# Altium footprint library JDB-001.PcbLib: 44 footprints (part 1 of 3)
Each footprint in its own frame and in the unit in brackets; x right, y up, seen from the top. Pads: shape width x height; smd on the part's side, far side on the other; paste and mask are expansions set on the pad; w line width, h text height; cw(c..) or ccw(c..) is an arc to the next point about the centre after c.
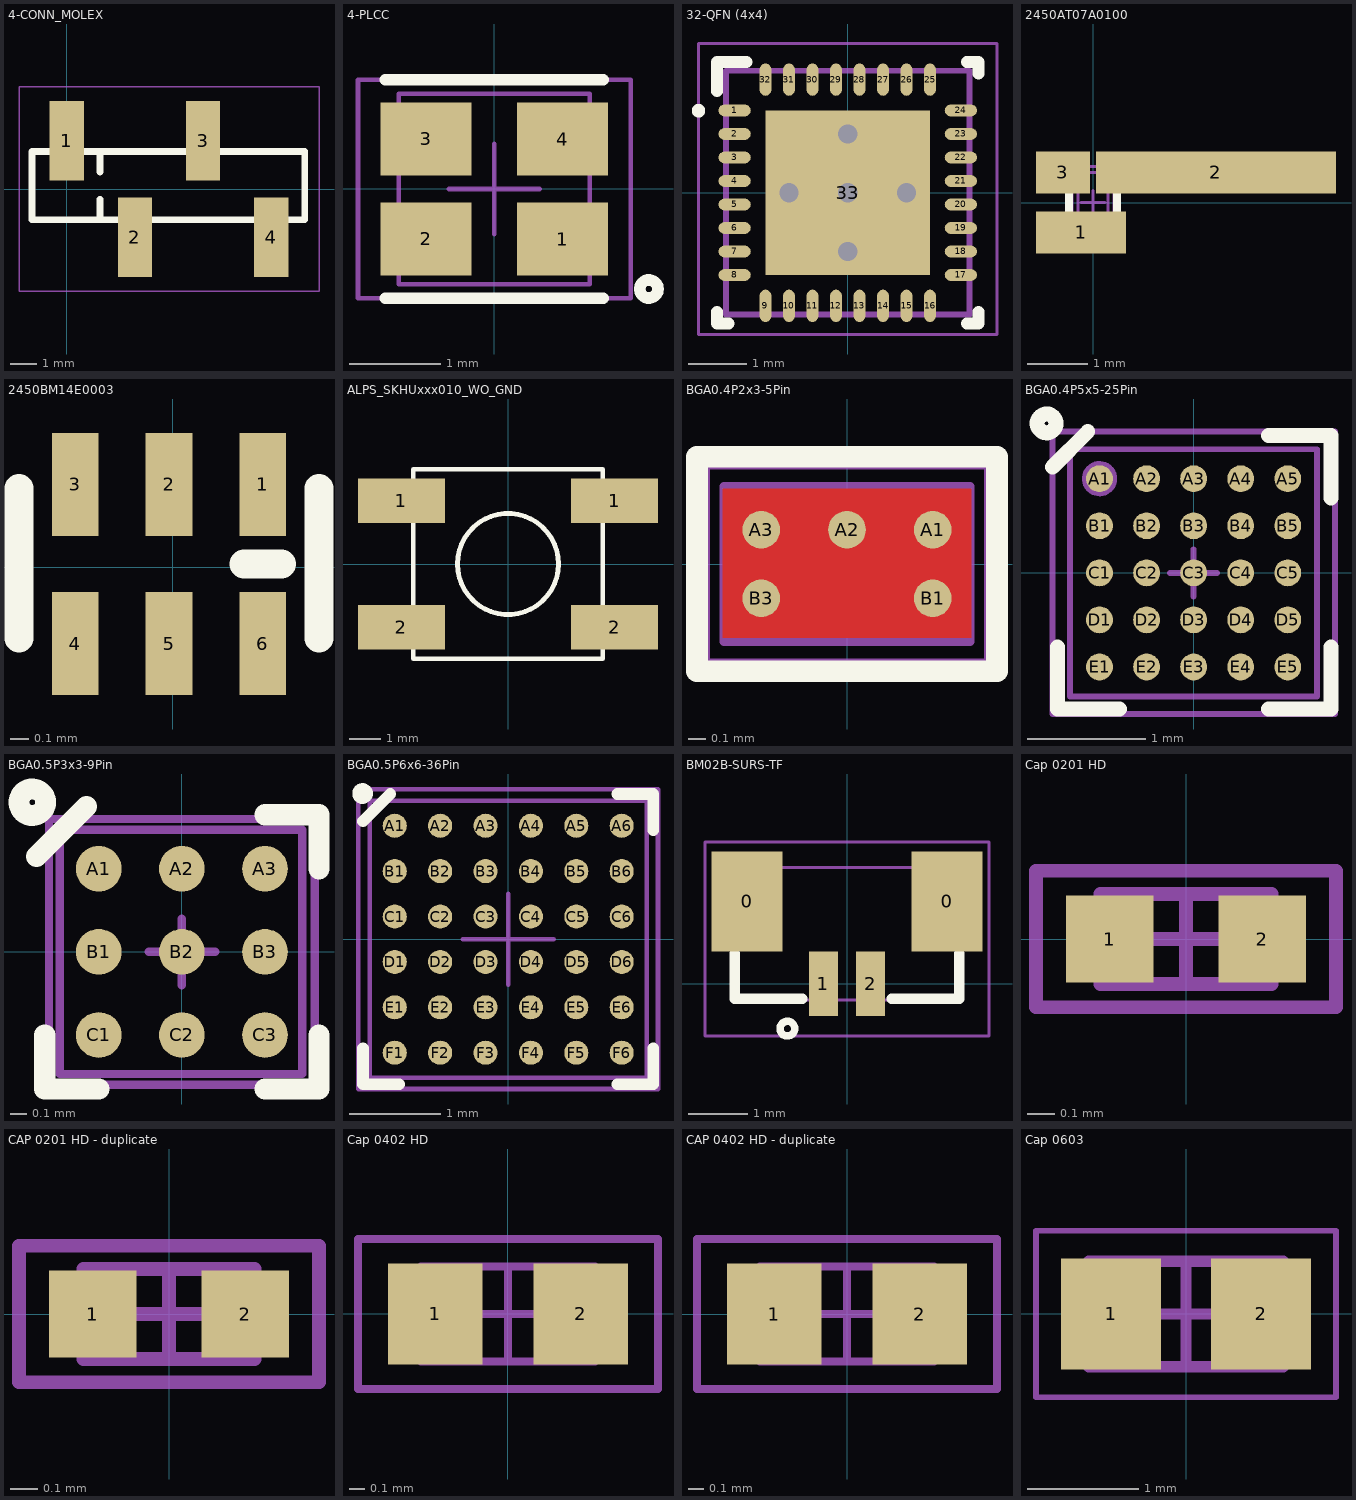
[diagram p0: the footprints below, top view; thin cyan lines are the x and y axes]

## 4-CONN_MOLEX [mm] "4 Positions Header, Unshrouded, Breakaway Connector 0.100\" (2.54mm) Surface Mount Tin"
pads (4):
  rect 1.27x2.96 smd: 1(0,1.8) 2(2.54,-1.8) 3(5.08,1.8) 4(7.62,-1.8)
Top Overlay:
  lines w0.254: 1.245,-1.143 1.245,-0.381 ; 1.245,0.635 1.245,1.397 ; -1.295,-1.143 8.865,-1.143 8.865,1.397 -1.295,1.397 -1.295,-1.143
Mechanical 11:
  text ".Designator" at 2.743,-0.356 h1.27
Mechanical 15:
  lines w0.05: -1.778,-3.81 -1.778,3.81 -1.473,3.81 -1.295,3.81 9.398,3.81 9.398,3.073 9.398,-3.429 9.398,-3.81 8.382,-3.81 -0.483,-3.81 -1.778,-3.81
3D body "User Library-header1x4 1241150-4.STEP": height 10.16, standoff 0, extent -1.321,-2.565 8.839,2.515

## 4-PLCC [mm] "4 Pin Plastic Leaded Chip Carrier, 2mm x 2mm"
height 1
pads (4):
  rect 1x0.8 smd: 1(0.75,-0.55) 2(-0.75,-0.55) 3(-0.75,0.55) 4(0.75,0.55)
Top Overlay:
  circle w0.127: c1.7,-1.1 r0.1
  lines w0.127: -1.2,-1.2 1.2,-1.2 ; -1.2,1.2 1.2,1.2
Mechanical 11:
  text ".Designator" at -1.491,0.411 h0.8
Mechanical 13:
  lines w0.05: -1.05,-1.05 1.05,-1.05 1.05,1.05 -1.05,1.05 -1.05,-1.05
Mechanical 15:
  lines w0.05: -0.5,0 0.5,0 ; 0,-0.5 0,0.5 ; -1.5,-1.2 1.5,-1.2 1.5,1.2 -1.5,1.2 -1.5,-1.2
3D body: height 1, standoff 0, extent -1.05,-1.05 1.05,1.05

## 32-QFN (4x4) [mm] "32-WFQFN Exposed Pad, SMT"
pads (33):
  oval 0.55x0.2 smd paste-0.262 mask+0.051: 1(-1.925,1.4) 2(-1.925,1) 3(-1.925,0.6) 4(-1.925,0.2) 5(-1.925,-0.2) 6(-1.925,-0.6) 7(-1.925,-1) 8(-1.925,-1.4) 17(1.925,-1.4) 18(1.925,-1) 19(1.925,-0.6) 20(1.925,-0.2) 21(1.925,0.2) 22(1.925,0.6) 23(1.925,1) 24(1.925,1.4)
  oval 0.2x0.55 smd paste-0.262 mask+0.051: 9(-1.4,-1.925) 10(-1,-1.925) 11(-0.6,-1.925) 12(-0.2,-1.925) 13(0.2,-1.925) 14(0.6,-1.925) 15(1,-1.925) 16(1.4,-1.925) 25(1.4,1.925) 26(1,1.925) 27(0.6,1.925) 28(0.2,1.925) 29(-0.2,1.925) 30(-0.6,1.925) 31(-1,1.925) 32(-1.4,1.925)
  rect 2.8x2.8 smd paste-1.387 mask+0.051: 33(0,0)
via 0,-1 diameter 0.66 hole 0.33
via 0,1 diameter 0.66 hole 0.33
via 1,0 diameter 0.66 hole 0.33
via -1,0 diameter 0.66 hole 0.33
via 0,0 diameter 0.66 hole 0.33
Top Overlay:
  circle w0.178: c-2.54,1.397 r0.025
  lines w0.2: -2.225,-2.025 -2.225,-2.225 -2.025,-2.225 ; -2.225,1.725 -2.225,2.225 -1.725,2.225 ; 2.025,-2.225 2.225,-2.225 2.225,-2.025 ; 2.025,2.225 2.225,2.225 2.225,2.025
Top Paste:
  region: 0.1,-0.1 0.1,-1.37 1.37,-1.37 1.37,-0.1
  region: -0.1,-1.37 -0.1,-0.1 -1.37,-0.1 -1.37,-1.37
  region: -0.1,0.1 -0.1,1.37 -1.37,1.37 -1.37,0.1
  region: 0.1,1.37 0.1,0.1 1.37,0.1 1.37,1.37
Mechanical 11:
  text ".Designator" at -1.854,-0.508 h1.27
Mechanical 13:
  lines w0.1: -2.075,-2.075 2.075,-2.075 2.075,2.075 -2.075,2.075 -2.075,-2.075
Mechanical 15:
  lines w0.051: -2.54,-2.413 2.54,-2.413 2.54,2.54 -2.54,2.54 -2.54,1.397 -2.54,-2.413
3D body "User Library-QFN 32.STEP": height 0.59, standoff -0.01, extent -2.001,-2.001 2.001,2.001

## 2450AT07A0100 [mm] "Chip Antenna, 4 pin w/keepout area"
height 0.37
pads (3):
  rect 1.5x0.7 smd paste-0.4 mask-0.4: 1(-0.2,-0.5)
  rect 4x0.7 smd paste-2 mask-2: 2(2.05,0.5)
  rect 0.9x0.7 smd paste-0.45 mask-0.45: 3(-0.5,0.5)
Top Overlay:
  circle w0.127: c0.375,-0.675 r0.07
  lines w0.127: -0.4,-0.4 -0.4,0.4 ; 0.4,-0.4 0.4,0.4
Top Paste:
  rectangle: 0.049,-0.45 0.299,-0.15
  rectangle: -0.301,-0.45 -0.051,-0.15
  rectangle: -0.301,0.15 -0.051,0.45
  rectangle: 0.049,0.15 0.299,0.45
Top Solder:
  rectangle: -0.301,0.15 -0.051,0.45
  rectangle: 0.049,0.15 0.299,0.45
  rectangle: 0.049,-0.45 0.299,-0.15
  rectangle: -0.301,-0.45 -0.051,-0.15
Mechanical 11:
  text ".Designator" at 0.255,-0.824 h0.5
Mechanical 13:
  lines w0.05: -0.25,-0.5 0.25,-0.5 0.25,0.5 -0.25,0.5 -0.25,-0.5
Mechanical 15:
  lines w0.05: -0.2,0 0.2,0 ; 0,-0.2 0,0.2 ; -0.35,-0.6 -0.35,0.6 0.35,0.6 0.35,-0.6 -0.35,-0.6
Multi-Layer:
  pour cut-out: -0.95,0.95 -0.95,-2.05 4.05,-2.05 4.05,0.95
3D body: height 0.37, standoff 0, extent -0.25,-0.5 0.25,0.5

## 2450BM14E0003 [mm] "nRF51822 Balun"
pads (6):
  rect 0.25x0.55 smd: 1(0.48,0.443) 2(-0.02,0.443) 3(-0.52,0.443) 4(-0.52,-0.407) 5(-0.02,-0.407) 6(0.48,-0.407)
Top Overlay:
  lines w0.152: -0.82,-0.377 -0.82,0.423 ; 0.38,0.018 0.58,0.018 ; 0.78,-0.377 0.78,0.423
3D body: height 0.62, standoff 0, extent 0.38,-0.022 0.58,0.058
3D body: height 0.62, standoff 0, extent 0.38,-0.392 0.58,-0.242
3D body: height 0.62, standoff 0, extent -0.12,-0.392 0.08,-0.242
3D body: height 0.62, standoff 0, extent -0.62,-0.392 -0.42,-0.242
3D body: height 0.62, standoff 0, extent -0.62,0.278 -0.42,0.428
3D body: height 0.62, standoff 0, extent -0.12,0.278 0.08,0.428
3D body: height 0.62, standoff 0, extent 0.38,0.278 0.58,0.428
3D body: height 0.6, standoff 0, extent -0.82,-0.377 0.78,0.423

## ALPS_SKHUxxx010_WO_GND [mm]
pads (4):
  rect 2.75x1.4 smd: 1(-3.375,2) 1(3.375,2) 2(-3.375,-2) 2(3.375,-2)
Top Overlay:
  circle w0.152: c0,0 r1.601
  lines w0.152: -3,-3 -3,3 3,3 3,-3 -3,-3
3D body "Switch tact 6x6mm.stp": height 3.1, standoff 0, extent -4,-3 4,3.3

## BGA0.4P2x3-5Pin [mm] "UFBGA, 5 pin 2 row x 3 column, .4mm x .5mm pitch,  1.385mm x .855mm"
height 0.63
pads (5):
  round 0.22 smd mask+0.05: A1(0.5,0.2) A2(0,0.2) A3(-0.5,0.2) B1(0.5,-0.2) B3(-0.5,-0.2)
Top Layer:
  pour cut-out: -0.725,-0.43 0.725,-0.43 0.725,0.44 -0.725,0.44
Top Overlay:
  lines w0.127: -0.875,-0.625 0.875,-0.625 0.875,0.625 -0.875,0.625 -0.875,-0.625
Mechanical 11:
  text ".Designator" at -0.684,-0.227 h0.5
Mechanical 13:
  lines w0.05: -0.718,-0.453 0.718,-0.453 0.718,0.453 -0.718,0.453 -0.718,-0.453
Mechanical 15:
  lines w0.05: -0.2,0 0.2,0 ; 0,-0.2 0,0.2 ; -0.825,-0.575 0.825,-0.575 0.825,0.575 -0.825,0.575 -0.825,-0.575
3D body: height 0.17, standoff -0.05, extent 0.391,0.091 0.61,0.31
3D body: height 0.17, standoff -0.05, extent 0.391,-0.309 0.61,-0.09
3D body: height 0.17, standoff -0.05, extent -0.109,0.091 0.11,0.31
3D body: height 0.17, standoff -0.05, extent -0.609,-0.309 -0.39,-0.09
3D body: height 0.17, standoff -0.05, extent -0.609,0.091 -0.39,0.31
3D body: height 0.51, standoff 0.11, extent -0.725,-0.45 0.725,0.45
3D body: height 0.69, standoff 0.51, extent -0.725,-0.45 0.725,0.45

## BGA0.4P5x5-25Pin [mil] "XBGA 0.4mm pitch, 5 row x 5 column, 25 Pin, 2mm x 2mm, TI S-XBGA-N25 YFF"
height 24.61
pads (25):
  rrect100% 9x9 smd mask+1.97: A1(-31.5,31.5) A2(-15.75,31.5) A3(0,31.5) A4(15.75,31.5) A5(31.5,31.5) B1(-31.5,15.75) B2(-15.75,15.75) B3(0,15.75) B4(15.75,15.75) B5(31.5,15.75) C1(-31.5,0) C2(-15.75,0) C3(0,0) C4(15.75,0) C5(31.5,0) D1(-31.5,-15.75) D2(-15.75,-15.75) D3(0,-15.75) D4(15.75,-15.75) D5(31.5,-15.75) E1(-31.5,-31.5) E2(-15.75,-31.5) E3(0,-31.5) E4(15.75,-31.5) E5(31.5,-31.5)
Top Overlay:
  circle w5: c-49.21,50 r3.15
  lines w5: -47.24,35.43 -35.43,47.24 ; -45.59,-24.76 -45.59,-45.59 -24.76,-45.59 ; 25,-45.59 46,-45.59 46,-24.76 ; 25,46 46,46 46,25
Mechanical 11:
  text ".Designator" at -29.53,-9.84 h19.68
Mechanical 13:
  circle w1.97: c-31.5,31.5 r4.92
  lines w1.97: -41.34,-41.34 -41.34,41.34 41.34,41.34 41.34,-41.34 -41.34,-41.34
Mechanical 15:
  lines w1.97: -7.87,0 7.87,0 ; 0,-7.87 0,7.87 ; -47.24,-47.24 47.24,-47.24 47.24,47.24 -47.24,47.24 -47.24,-47.24
3D body: height 24.61, standoff 0, extent -41.34,-41.34 41.34,41.34

## BGA0.5P3x3-9Pin [mm] "DSBGA 0.5mm pitch, 3 row x 3 column, 9 Pin, 1.47mm x 1.47mm, TI S-XBGA-N9 YZF"
height 0.625
pads (9):
  round 0.275 smd paste+0 mask+0.05: A1(-0.5,0.5) A2(0,0.5) A3(0.5,0.5) B1(-0.5,0) B2(0,0) B3(0.5,0) C1(-0.5,-0.5) C2(0,-0.5) C3(0.5,-0.5)
Top Overlay:
  circle w0.125: c-0.9,0.9 r0.08
  lines w0.127: -0.875,0.575 -0.575,0.875 ; -0.825,-0.5 -0.825,-0.825 -0.5,-0.825 ; 0.5,-0.825 0.825,-0.825 0.825,-0.5 ; 0.5,0.825 0.825,0.825 0.825,0.5
Mechanical 11:
  text ".Designator" at 0.781,0.23 h0.5
Mechanical 13:
  lines w0.05: -0.734,-0.735 0.725,-0.735 0.725,0.734 -0.734,0.734 -0.734,-0.735
Mechanical 15:
  lines w0.05: -0.2,0 0.2,0 ; 0,-0.2 0,0.2 ; -0.8,-0.8 -0.8,0.8 0.8,0.8 0.8,-0.8 -0.8,-0.8
3D body: height 0.63, standoff 0, extent -0.735,-0.734 0.725,0.734
3D body: height 0.63, standoff 0, extent -0.6,0.401 -0.401,0.599

## BGA0.5P6x6-36Pin [mm] "BGA,Pitch 0.5mm, 36 Pin 6x6, Body 3x3mm"
height 0.68
pads (36):
  round 0.265 smd paste-0.132 mask+0.05: A1(-1.25,1.25) A2(-0.75,1.25) A3(-0.25,1.25) A4(0.25,1.25) A5(0.75,1.25) A6(1.25,1.25) B1(-1.25,0.75) B2(-0.75,0.75) B3(-0.25,0.75) B4(0.25,0.75) B5(0.75,0.75) B6(1.25,0.75) C1(-1.25,0.25) C2(-0.75,0.25) C3(-0.25,0.25) C4(0.25,0.25) C5(0.75,0.25) C6(1.25,0.25) D1(-1.25,-0.25) D2(-0.75,-0.25) D3(-0.25,-0.25) D4(0.25,-0.25) D5(0.75,-0.25) D6(1.25,-0.25) E1(-1.25,-0.75) E2(-0.75,-0.75) E3(-0.25,-0.75) E4(0.25,-0.75) E5(0.75,-0.75) E6(1.25,-0.75) F1(-1.25,-1.25) F2(-0.75,-1.25) F3(-0.25,-1.25) F4(0.25,-1.25) F5(0.75,-1.25) F6(1.25,-1.25)
Top Overlay:
  circle w0.127: c-1.605,1.605 r0.05
  lines w0.127: -1.6,-1.2 -1.6,-1.6 -1.2,-1.6 ; -1.6,1.3 -1.3,1.6 ; 1.2,-1.6 1.6,-1.6 1.6,-1.2 ; 1.2,1.6 1.6,1.6 1.6,1.2
Top Paste:
  drawing of 324 lines, arcs and shapes, not listed
Mechanical 11:
  text ".Designator" at 0.447,-1.72 h1
Mechanical 13:
  lines w0.05: -1.525,-1.525 -1.525,1.525 1.525,1.525 1.525,-1.525 -1.525,-1.525
Mechanical 15:
  lines w0.05: -0.5,0 0.5,0 ; 0,-0.5 0,0.5 ; -1.65,-1.65 -1.65,1.65 1.65,1.65 1.65,-1.65 -1.65,-1.65
3D body: height 0.68, standoff 0, extent -1.525,-1.525 1.525,1.525

## BM02B-SURS-TF [mm]
pads (4):
  rect 1.2x1.7 smd: 0(-1.7,1.4) 0(1.7,1.4)
  rect 0.5x1.1 smd: 1(-0.4,0) 2(0.4,0)
Top Overlay:
  circle w0.127: c-1.014,-0.762 r0.125
  lines w0.178: -1.905,0.508 -1.905,-0.254 -0.762,-0.254 ; 0.762,-0.254 1.905,-0.254 1.905,0.508
Mechanical 11:
  text ".Designator" at 0,0.889 h0.5
Mechanical 13:
  lines w0.05: -1.9,-0.275 1.9,-0.275 1.9,1.975 -1.9,1.975 -1.9,-0.275
Mechanical 15:
  lines w0.05: -2.413,-0.889 2.413,-0.889 2.413,2.413 -2.413,2.413 -2.413,-0.889
3D body "BM02B-SURS-TF.STEP": height 2.7, standoff -0.05, extent -1.9,-0.275 1.9,1.975

## Cap 0201 HD [mm] "Chip Capacitor, 2-Leads, Body 0.60x0.30mm, IPC High Density"
height 0.33
pads (2):
  rect 0.32x0.32 smd mask+0.05: 1(-0.28,0) 2(0.28,0)
Mechanical 11:
  text ".Designator" at -0.315,-0.165 h0.3
Mechanical 13:
  lines w0.05: -0.315,-0.165 0.315,-0.165 0.315,0.165 -0.315,0.165 -0.315,-0.165
Mechanical 15:
  lines w0.05: -0.165,0 0.165,0 ; 0,-0.165 0,0.165 ; -0.55,-0.25 -0.55,0.25 0.55,0.25 0.55,-0.25 -0.55,-0.25
3D body: height 0.33, standoff 0, extent -0.165,-0.165 0.165,0.165
3D body: height 0.33, standoff 0, extent -0.315,-0.165 -0.165,0.165
3D body: height 0.33, standoff 0, extent 0.165,-0.165 0.315,0.165

## CAP 0201 HD - duplicate [mm]
pads (2):
  rect 0.32x0.32 smd mask+0.05: 1(-0.28,0) 2(0.28,0)
Mechanical 11:
  text ".Designator" at 0.508,0.152 h0.3
Mechanical 13:
  lines w0.05: -0.315,-0.165 0.315,-0.165 0.315,0.165 -0.315,0.165 -0.315,-0.165
Mechanical 15:
  lines w0.05: -0.165,0 0.165,0 ; 0,-0.165 0,0.165 ; -0.55,-0.25 -0.55,0.25 0.55,0.25 0.55,-0.25 -0.55,-0.25
3D body: height 0.33, standoff 0, extent -0.165,-0.165 0.165,0.165
3D body: height 0.33, standoff 0, extent -0.315,-0.165 -0.165,0.165
3D body: height 0.33, standoff 0, extent 0.165,-0.165 0.315,0.165

## Cap 0402 HD [mm] "Chip Capacitor, 2-Leads, Body 1.00x0.50mm, IPC Medium Density"
height 0.6
pads (2):
  rect 0.6x0.64 smd: 1(-0.46,0) 2(0.46,0)
Mechanical 11:
  text ".Designator" at -0.875,-0.229 h0.5
Mechanical 13:
  lines w0.05: -0.55,-0.3 -0.55,0.3 0.55,0.3 0.55,-0.3 -0.55,-0.3
Mechanical 15:
  lines w0.05: -0.3,0 0.3,0 ; 0,-0.3 0,0.3 ; -0.95,-0.475 0.95,-0.475 0.95,0.475 -0.95,0.475 -0.95,-0.475
3D body: height 0.6, standoff 0, extent 0.35,-0.3 0.55,0.3
3D body: height 0.6, standoff 0, extent -0.55,-0.3 -0.35,0.3
3D body: height 0.6, standoff 0, extent -0.35,-0.3 0.35,0.3

## CAP 0402 HD - duplicate [mm]
pads (2):
  rect 0.6x0.64 smd: 1(-0.46,0) 2(0.46,0)
Mechanical 11:
  text ".Designator" at -0.889,-0.229 h0.5
Mechanical 13:
  lines w0.05: -0.55,-0.3 -0.55,0.3 0.55,0.3 0.55,-0.3 -0.55,-0.3
Mechanical 15:
  lines w0.05: -0.3,0 0.3,0 ; 0,-0.3 0,0.3 ; -0.95,-0.475 0.95,-0.475 0.95,0.475 -0.95,0.475 -0.95,-0.475
3D body: height 0.6, standoff 0, extent 0.35,-0.3 0.55,0.3
3D body: height 0.6, standoff 0, extent -0.55,-0.3 -0.35,0.3
3D body: height 0.6, standoff 0, extent -0.35,-0.3 0.35,0.3

## Cap 0603 [mm]
height 1
pads (2):
  rect 0.9x1 smd: 1(-0.675,0) 2(0.675,0)
Mechanical 11:
  text ".Designator" at 1.473,0.406 h0.8
Mechanical 13:
  lines w0.1: -0.875,-0.475 0.875,-0.475 0.875,0.475 -0.875,0.475 -0.875,-0.475
Mechanical 15:
  lines w0.05: -1.35,-0.75 1.35,-0.75 1.35,0.75 -1.35,0.75 -1.35,-0.75
  lines w0.1: -0.475,0 0.475,0 ; 0,-0.475 0,0.475
3D body: height 0.85, standoff 0, extent 0.525,-0.475 0.875,0.475
3D body: height 0.85, standoff 0, extent -0.875,-0.475 -0.525,0.475
3D body: height 0.85, standoff 0, extent -0.525,-0.475 0.525,0.475